# EAGLE library part 750313739 (library WE-OLTI)
WE-OLTI Offline Flyback Transformers Characteristics Nominal input voltage: 85–265 VAC (120–375 VDC) Small size Low leakage inductance Multiple-output options Operating temperature: −40 °C to +125 °C Isolation Voltage: 2 kVAC to 5 kVAC Options for fixed frequency or quasi-resonant mode operation Most products meet reinforced insulation Applications Industrial controls USB chargers Utility metering devices Process controls Factory automation Security systems Garage door opener auxiliary supplies Home appliances Especially designed for several ICs from Texas Instruments Details see: www.we-online.com/en/components/products/WE-OLTI Created by Ella 2025-02-06 2025 (C) Würth Elektronik
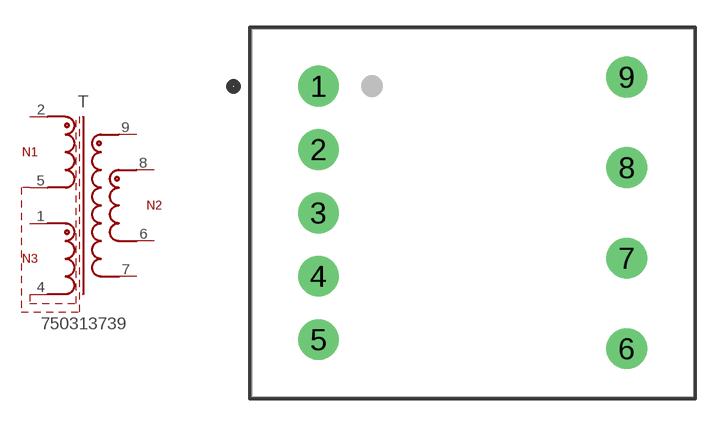
[diagram p21: symbol with the pads of WE-OLTI_EE16/8/5_L20.32W24.38H16; footprint WE-OLTI_EE16/8/5_L20.32W24.38H16]

Designator prefix T

## 750313739 (AUXILIARY_VOLTAGE_1: 17 V; CATEGORY: Transformers; DATASHEET: https://www.we-online.com/redexpert/spec/750313739?ae; HEIGHT: 16 mm; INDUCTANCE: 1100 uH; INPUT_VOLTAGE: 85 - 265 V (AC); INSULATION_TEST_VOLTAGE: 4500 V (AC); LENGTH: 20.32 mm; MANUFACTURER: Würth Elektronik; MOUNT: THT; MPN: 750313739; OUTPUT_CURRENT_1: 1200 mA; OUTPUT_VOLTAGE_1: 5 V; SATURATION_CURRENT: 0.65 A; SIZE: EE16/8/5; SWITCHING-FREQUENCY: 115kHz; TURNS_RATIO: 16.5:1:3.5; VALUE: 1100 uH; WIDTH: 24.38 mm)  [WE-OLTI_EE16/8/5_L20.32W24.38H16]
1  1  pas
2  2  pas
4  4  pas
5  5  pas
6  6  pas
7  7  pas
8  8  pas
9  9  pas

## Footprint WE-OLTI_EE16/8/5_L20.32W24.38H16 (pad centres in mm)
WE-OLTI Offline Flyback Transformers Size: EE16/8/5,THT,9pins LXWXH=20.32X24.38X16mm Bobbin: 070-5280
drill 1.5: 1 -8.5,7; 2 -8.5,3.5; 3 -8.5,0; 4 -8.5,-3.5; 5 -8.5,-7; 6 8.5,-7.5; 7 8.5,-2.5; 8 8.5,2.5; 9 8.5,7.5